# EAGLE library part TPS2121 (library vikc-ic)
The TPS212x devices are Dual-Input, Single-Output (DISO) Power Multiplexer (MUX) that are well suited for a variety of systems having multiple power sources. The devices will Automatically Detect, Select, and Seamlessly Transition between available inputs.
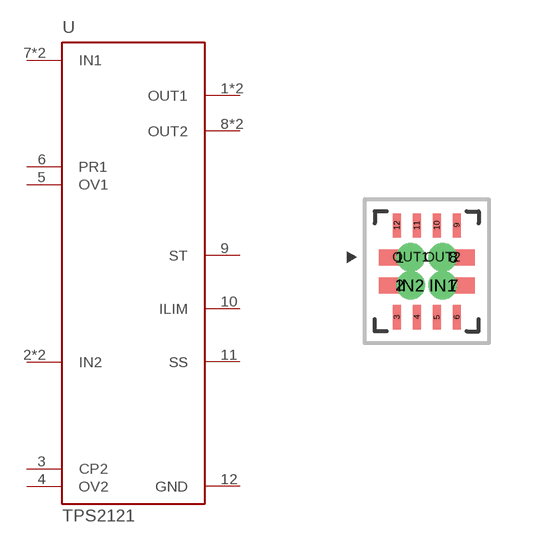
[diagram p17: symbol with the pads of VQFN-12-2.5X2MM; footprint VQFN-12-2.5X2MM]

Designator prefix U

## TPS2121  [VQFN-12-2.5X2MM]
1  OUT1
2  IN2
3  CP2
4  OV2
5  OV1
6  PR1
7  IN1
8  OUT2
9  ST
10  ILIM
11  SS
12  GND
IN1  IN1
IN2  IN2
OUT1  OUT1
OUT2  OUT2

## Footprint VQFN-12-2.5X2MM (pad centres in mm)
smd 1.05 x 0.4: 1 -0.675,0.35; 2 -0.675,-0.35; 7 0.675,-0.35; 8 0.675,0.35
smd 0.2 x 0.6: 3 -0.75,-1.15; 4 -0.25,-1.15; 5 0.25,-1.15; 6 0.75,-1.15; 9 0.75,1.15; 10 0.25,1.15; 11 -0.25,1.15; 12 -0.75,1.15
drill 0.2 pad 0.305: IN1 0.4,-0.35; IN2 -0.4,-0.35; OUT1 -0.4,0.35; OUT2 0.4,0.35